# Altium schematic symbol library 1210_cap.SchLib: 1 symbol
Pins are listed as number, name and electrical type; pins without a type are passive.

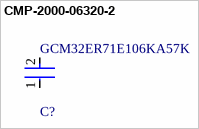
[diagram p0: symbol CMP-2000-06320-2]

## CMP-2000-06320-2
designator C?, comment GCM32ER71E106KA57K
Ceramic Capacitor for Automotive 10uF ±10% 25VDC X7R 1210 Embossed T/R; Voltage Rating (DC): 25V; Height: 2.5mm; Ratings: AEC-Q200; Termination: SMD/SMT; Case Code (Imperial): 1210; Packaging: Tape and Reel; Min Operating Temperature: -55°C; Radiation Hardening: No; Mount: Surface Mount; Depth: 2.5mm; Case Code (Metric): 3225; Length: 3.2mm; Tolerance: 10%; Package Quantity: 4000; Width: 0.098inch; Max Operating Temperature: 125°C; Thickness: 0.106inch; Case/Package: 1210; Capacitance: 10uF; Voltage Rating: 25V; Dielectric: X7R
footprint FP-GCM32E-0_3-IPC_B
footprint FP-GCM32E-0_3-IPC_C
footprint FP-GCM32E-0_3-MFG
footprint FP-GCM32E-0_3-IPC_A
pins: 1, 2